# Altium schematic symbol library TE Connectors.SchLib: 1 symbol
Pins are listed as number, name and electrical type; pins without a type are passive.

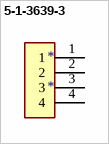
[diagram p0: symbol 5-1-3639-3]

## 5-1-3639-3
designator *
footprint 5-103639-3
pins: 1, 2, 3, 4